# Altium footprint library Connectors.PcbLib: 37 footprints (part 1 of 3)
Each footprint in its own frame and in the unit in brackets; x right, y up, seen from the top. Pads: shape width x height; smd on the part's side, far side on the other; paste and mask are expansions set on the pad; w line width, h text height; cw(c..) or ccw(c..) is an arc to the next point about the centre after c.
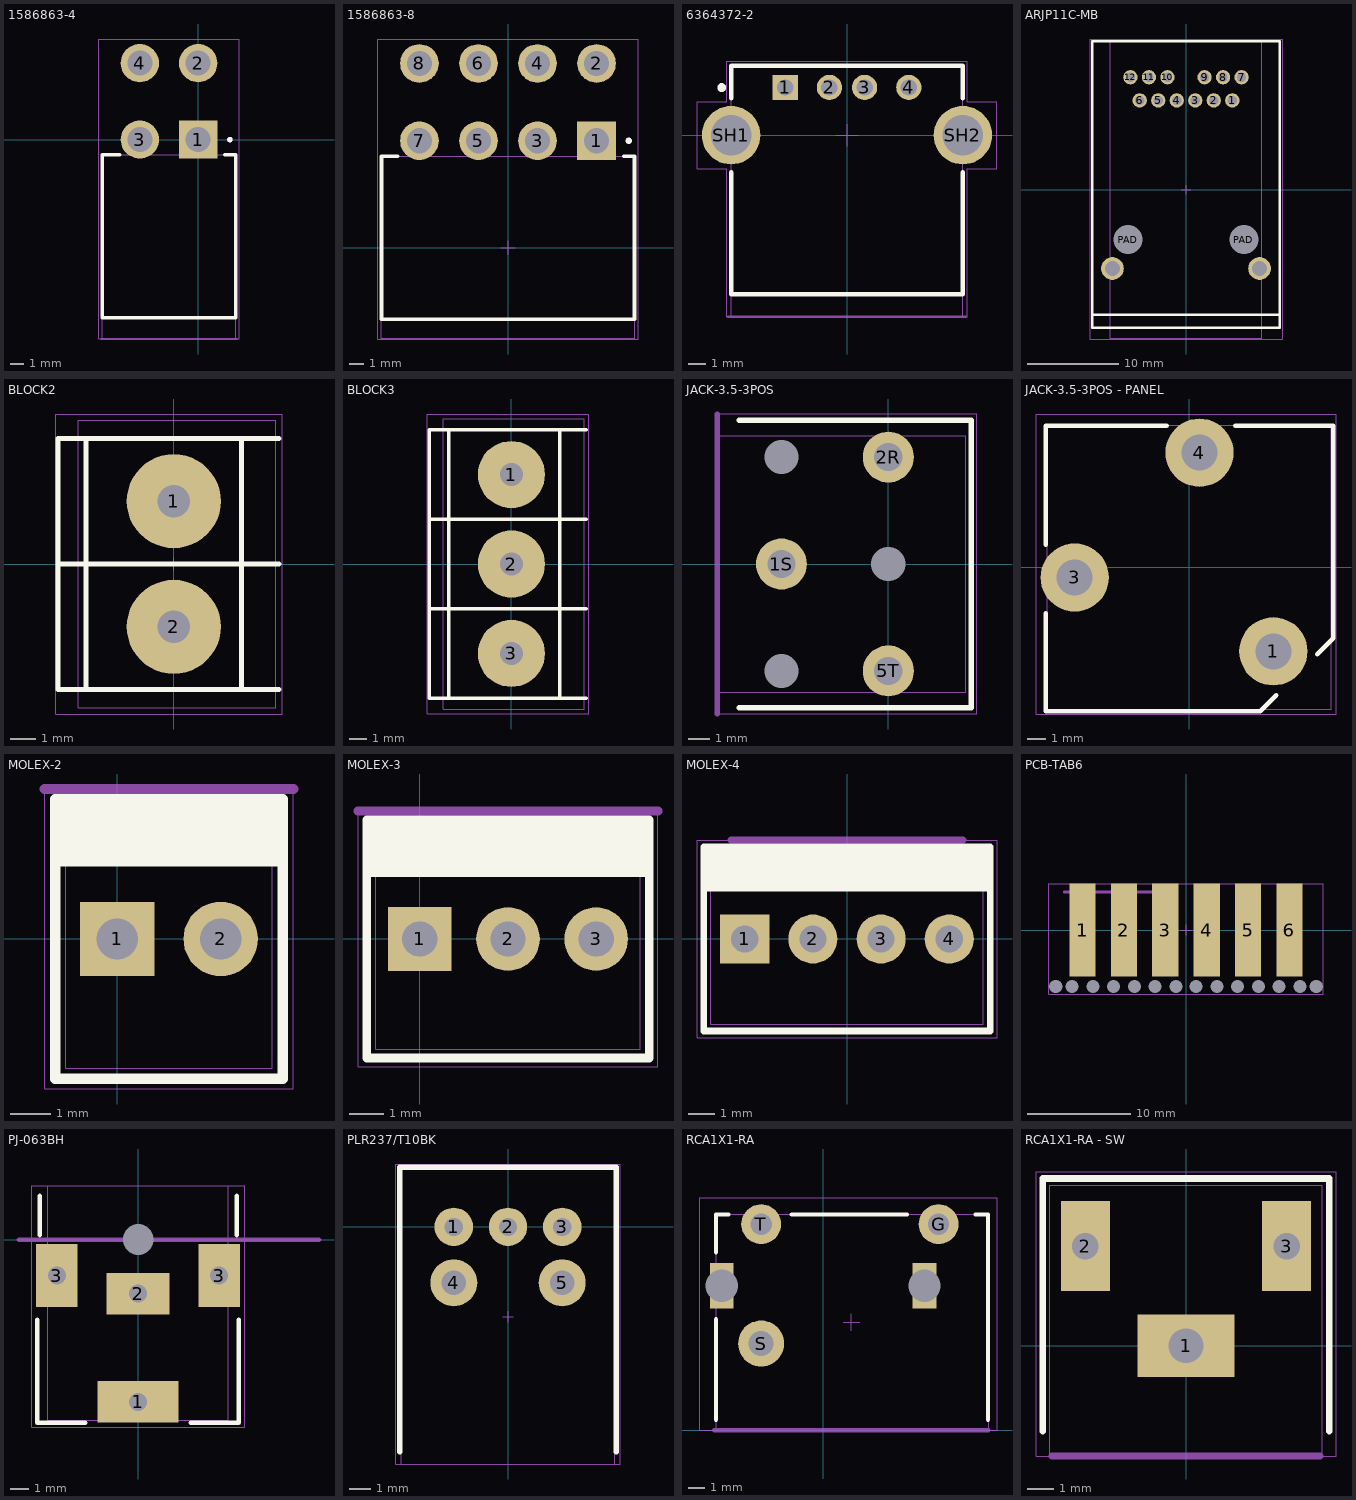
[diagram p0: the footprints below, top view; thin cyan lines are the x and y axes]

## 1586863-4 [mm]
pads (4):
  rect 2.75x2.75 hole 1.8: 1(0,0)
  round 2.75 hole 1.8: 2(0,5.5) 3(-4.2,0) 4(-4.2,5.5)
Top Overlay:
  circle w0.2: c2.286,0 r0.1
  lines w0.254: -5.631,-1.1 -6.9,-1.1 -6.9,-12.827 2.7,-12.827 2.7,-1.1 1.905,-1.1
Top Courtyard:
  lines w0.025: -7.15,-14.35 -7.15,7.239 2.95,7.239 2.95,-14.35 -7.15,-14.35
Top Assembly:
  circle w0.2: c2.286,0 r0.1
  lines w0.025: -6.9,-14.354 -6.9,-1.1 2.7,-1.1 2.7,-14.354 -6.9,-14.354
Board Edge:
  lines w0.127: -6.985,-14.351 2.794,-14.351
3D body "1586863-4.stp": height 11.25, standoff -3.55, extent -6.798,-14.132 3.302,6.003

## 1586863-8 [mm]
pads (8):
  rect 2.75x2.75 hole 1.8: 1(6.3,7.597)
  round 2.75 hole 1.8: 2(6.3,13.097) 3(2.1,7.597) 4(2.1,13.097) 5(-2.1,7.597) 6(-2.1,13.097) 7(-6.3,7.597) 8(-6.3,13.097)
Top Overlay:
  circle w0.254: c8.586,7.597 r0.1
  lines w0.254: -7.84,6.497 -9,6.497 -9,-5.103 9,-5.103 9,6.497 8.248,6.497
Top Courtyard:
  lines w0.05: -9.25,-6.503 -9.25,14.836 9.25,14.836 9.25,-6.503 -9.25,-6.503
Top Assembly:
  circle w0.2: c8.586,7.597 r0.1
  lines w0.025: -0.5,0 0.5,0 ; 0,-0.5 0,0.5 ; -9,-6.5 -9,6.5 9,6.5 9,-6.5 -9,-6.5
Board Edge:
  lines w0.127: -9,-6.503 9,-6.503
3D body "1586863-8.stp": height 11.25, standoff -3.55, extent -9.025,-6.408 9.475,13.727

## 6364372-2 [mm]
pads (6):
  rect 1.428x1.428 hole 0.92: 1(-3.5,2.71)
  round 1.428 hole 0.92: 2(-1,2.71) 3(1,2.71) 4(3.5,2.71)
  round 3.316 hole 2.3: SH1(-6.57,0) SH2(6.57,0)
Top Overlay:
  circle w0.3: c-7.1,2.7 r0.1
  lines w0.254: -6.565,-2.1 -6.565,-9.017 6.565,-9.017 6.565,-2.1 ; -6.565,2.1 -6.565,3.937 6.565,3.937 6.565,2.1
Top Courtyard:
  lines w0.025: -8.5,-1.9 -8.5,1.9 -6.815,1.9 -6.815,4.191 6.815,4.191 6.815,1.9 8.5,1.9 8.5,-1.9 6.815,-1.9 6.815,-10.28 -6.815,-10.28 -6.815,-1.9 -8.5,-1.9
Top Assembly:
  lines w0.025: -0.635,0 0.635,0 ; 0,-0.635 0,0.635 ; -6.565,-10.28 -6.565,3.937 6.565,3.937 6.565,-10.28 -6.565,-10.28
Board Edge:
  lines w0.127: -6.731,-10.287 6.731,-10.287
3D body "6364372-2.stp": height 7.69, standoff -3.17, extent -7.264,-10.302 7.366,3.698

## ARJP11C-MB [mil] "Magjack Conector for PoE"
pads (16):
  round 62 hole 40: 1(199.8,385) 2(119.88,385) 3(39.96,385) 4(-39.96,385) 5(-119.88,385) 6(-199.8,385) 7(239.76,485) 8(159.84,485) 9(79.92,485) 10(-79.92,485) 11(-159.84,485) 12(-239.76,485)
  round 100 hole 125 unplated: PAD(-250,-215) PAD(250,-215)
  round 98.43 hole 65: SHIELD(-317.52,-340.2) SHIELD(317.52,-340.2)
Top Overlay:
  lines w10: -405,-540 405,-540 ; -405,-595 405,-595 405,640 -405,640 -405,-595
Top Courtyard:
  lines w1: -415,-644.13 415,-644.13 415,650 -415,650 -415,-644.13
Top Assembly:
  lines w1: -19.68,0 19.68,0 ; 0,-19.68 0,19.68 ; -326.77,-641.73 -326.77,641.73 326.77,641.73 326.77,-641.73 -326.77,-641.73
Board Edge:
  lines w5: -326.77,-644.13 326.77,-644.13
3D body "ARJP11C-MB.STEP": height 626.86, standoff -131.89, extent -406.69,-644.13 406.69,639.33

## BLOCK2 [mm] "Bornera con Tornillos 5mm separacion"
pads (2):
  round 3.75 hole 1.3: 1(0,2.5) 2(0,-2.5)
Top Overlay:
  lines w0.2: -4.6,0 4.191,0 ; -3.5,-5 -3.5,5 ; 2.7,-5 2.7,5 ; 4.191,-5 -4.6,-5 -4.6,5 4.191,5
Top Courtyard:
  lines w0.025: -4.699,-5.969 4.318,-5.969 4.318,5.969 -4.699,5.969 -4.699,-5.969
Top Assembly:
  lines w0.025: -0.254,0 0.254,0 ; 0,-0.254 0,0.254 ; -3.81,-5.715 -3.81,5.715 4.064,5.715 4.064,-5.715 -3.81,-5.715
3D body "BORNERA_2.step": height 10, standoff -2.28, extent -3.763,-4.892 3.937,5.607

## BLOCK3 [mm] "Bornera con Tornillos 5mm separacion"
pads (3):
  round 3.75 hole 1.3: 1(0,5) 2(0,0) 3(0,-5)
Top Overlay:
  lines w0.2: -4.6,-2.5 4.191,-2.5 ; -4.6,2.5 4.191,2.5 ; -3.5,-7.5 -3.5,7.5 ; 2.7,-7.5 2.7,7.5 ; 4.191,-7.5 -4.6,-7.5 -4.6,7.5 4.191,7.5
Top Courtyard:
  lines w0.025: -4.699,-8.382 4.318,-8.382 4.318,8.382 -4.699,8.382 -4.699,-8.382
Top Assembly:
  lines w0.025: -0.254,0 0.254,0 ; 0,-0.254 0,0.254 ; -3.81,-8.128 4.064,-8.128 4.064,8.128 -3.81,8.128 -3.81,-8.128
3D body "BORNERA_3.step": height 10.05, standoff -2.24, extent -3.763,-7.392 3.937,8.107

## JACK-3.5-3POS [mil]
pads (6):
  round 94 hole 52: 1S(-196.85,0) 2R(0,196.85) 5T(0,-196.85)
  round 45 hole 63 unplated: ""(-196.85,-196.85) ""(-196.85,196.85) ""(0,0)
Top Overlay:
  lines w10: -275,-265 152.78,-265 152.78,265 -275,265
Top Courtyard:
  lines w1: -315,-276.22 162.78,-276.22 162.78,276.22 -315,276.22 -315,-276.22
Top Assembly:
  lines w1: -315,-236.22 142.78,-236.22 142.78,236.22 -315,236.22 -315,-236.22
Board Edge:
  lines w10: -315,-276.22 -315,276.22
3D body "STX-3200-3NB_rB3.STEP": height 432.39, standoff -156.98, extent -451.71,-236.22 142.78,236.22

## JACK-3.5-3POS - PANEL [mm]
pads (3):
  round 3.8 hole 2: 1(4.67,-4.67) 3(-6.38,-0.56) 4(0.56,6.38)
Top Overlay:
  lines w0.254: -8.001,-2.54 -8.001,-8.001 3.937,-8.001 4.826,-7.112 ; -8.001,1.27 -8.001,7.874 -1.27,7.874 ; 2.54,7.874 8.001,7.874 8.001,-3.937 7.112,-4.826
Top Courtyard:
  lines w0.025: -8.534,-8.154 8.154,-8.154 8.154,8.534 -8.534,8.534 -8.534,-8.154
Top Assembly:
  lines w0.025: -7.9,-7.9 -7.9,7.9 7.9,7.9 7.9,-7.9 -7.9,-7.9
3D body "ACJS-MV35-3.stp": height 40.41, standoff -3.49, extent -7.886,-7.842 7.874,7.918

## MOLEX-2 [mil] "Connector 1x2, Pitch 100mil"
pads (2):
  rect 72x72 hole 40: 1(0,0)
  round 72 hole 40: 2(100,0)
Top Overlay:
  rectangle: -60,70 160,135
  lines w10: -60,-135 160,-135 160,135 -60,135 -60,-135
Top Courtyard:
  lines w1: -70,-145 170,-145 170,145 -70,145 -70,-145
Top Assembly:
  lines w1: -50,-125 -50,125 150,125 150,-125 -50,-125
Board Edge:
  lines w10: -70,145 170,145
3D body "MOLEX2.STEP": height 423.02, standoff -136.82, extent -50,-125 150,125

## MOLEX-3 [mil] "Connector 1x3, Pitch 100mil"
pads (3):
  rect 72x72 hole 40: 1(0,0)
  round 72 hole 40: 2(100,0) 3(200,0)
Top Overlay:
  rectangle: -60,70 260,135
  lines w10: -60,-135 -60,135 260,135 260,-135 -60,-135
Top Courtyard:
  lines w1: -70,-145 -70,145 270,145 270,-145 -70,-145
Top Assembly:
  lines w1: -50,-125 250,-125 250,125 -50,125 -50,-125
Board Edge:
  lines w10: -70,145 270,145
3D body "MOLEX3.STEP": height 423.02, standoff -136.82, extent -50,-125 250,125

## MOLEX-4 [mil] "Connector 1x4, Pitch 100mil"
pads (4):
  rect 72x72 hole 40: 1(-150,0)
  round 72 hole 40: 2(-50,0) 3(50,0) 4(150,0)
Top Overlay:
  rectangle: -210,70 210,135
  lines w10: -210,-135 210,-135 210,135 -210,135 -210,-135
Top Courtyard:
  lines w1: -220,-145 220,-145 220,145 -220,145 -220,-145
Top Assembly:
  lines w1: -200,-125 -200,125 200,125 200,-125 -200,-125
Board Edge:
  lines w10: -170,145 170,145
3D body "022232041.stp": height 420.5, standoff -139.5, extent -197,-128 197,122

## PCB-TAB6 [mil] "External Tabs x 6, Pitch 4mm"
pads (20):
  rect 100x355 smd: 1(-393.7,0) 2(-236.22,0) 3(-78.74,0) 4(78.74,0) 5(236.22,0) 6(393.7,0)
  round 30 hole 50 unplated: NC(-496.18,-215) NC(-433.7,-215) NC(-353.7,-215) NC(-276.22,-215) NC(-196.22,-215) NC(-118.74,-215) NC(-38.74,-215) NC(38.74,-215) NC(118.74,-215) NC(196.22,-215) NC(276.22,-215) NC(353.7,-215) NC(433.7,-215) NC(496.18,-215)
Top Courtyard:
  lines w1: -523.07,-245 523.07,-245 523.07,177.5 -523.07,177.5 -523.07,-245
Top Assembly:
  lines w1: -20,0 20,0 ; 0,-20 0,20
Board Edge:
  lines w10: -463.7,145 -123.7,145

## PJ-063BH [mm]
pads (5):
  rect 4.5x2.3 hole 1 square: 1(0,-9)
  rect 3.5x2.3 hole 1 square: 2(0,-3)
  rect 2.3x3.5 hole 1 square: 3(-4.5,-2) 3(4.5,-2)
  round 1.5 hole 1.7 unplated: ""(0,0)
Top Overlay:
  lines w0.254: -5.588,-4.445 -5.588,-10.16 -2.921,-10.16 ; -5.461,0.254 -5.461,2.413 ; 2.921,-10.16 5.588,-10.16 5.588,-4.445 ; 5.461,0.254 5.461,2.413
Top Courtyard:
  lines w0.025: -5.904,-10.404 5.904,-10.404 5.904,2.992 -5.904,2.992 -5.904,-10.404
Top Assembly:
  lines w0.025: -0.635,-3.508 0.635,-3.508 ; 0,-4.143 0,-2.873 ; -5,-10.008 -5,2.992 5,2.992 5,-10.008 -5,-10.008
Board Edge:
  lines w0.254: -6.604,0 10.033,0
3D body "CUI_DEVICES_PJ-063BH.step": height 9, standoff -3, extent -5.15,-10 5.15,3

## PLR237/T10BK [mm]
pads (5):
  round 1.8 hole 0.85: 1(-2.54,0) 2(0,0) 3(2.54,0)
  round 2.2 hole 1.15: 4(-2.54,-2.62) 5(2.54,-2.62)
Top Overlay:
  lines w0.254: -5.08,-10.541 -5.08,2.794 5.08,2.794 5.08,-10.541
Top Courtyard:
  lines w0.025: -5.254,-11.11 -5.254,2.944 5.254,2.944 5.254,-11.11 -5.254,-11.11
Top Assembly:
  lines w0.025: -0.254,-4.21 0.254,-4.21 ; 0,-4.464 0,-3.956 ; -5,-11.11 5,-11.11 5,2.69 -5,2.69 -5,-11.11
3D body: height 10, standoff 0, extent -5,-11.11 5,2.69

## RCA1X1-RA [mil]
pads (5):
  round 95 hole 51: G(275.5,492) T(-148,492)
  round 110 hole 59: S(-148,207)
  rect 57x108 hole 77 square: ""(-242,345) ""(242,345)
Top Overlay:
  lines w10: -255.9,25 -255.9,265 ; -255.9,425 -255.9,515 -225.9,515 ; -75,515 200,515 ; 363.5,515 393.5,515 393.5,25
Top Courtyard:
  lines w1: -295,0 415,0 415,555 -295,555 -295,0
Top Assembly:
  lines w1: 47.5,257.5 87.5,257.5 ; 67.5,237.5 67.5,277.5 ; -255,0 -255,515 395,515 395,0 -255,0
Board Edge:
  lines w10: -260,0 395,0
3D body "pjras1x1s_series.STEP": height 761.5, standoff -150, extent -255.9,-319.8 393.5,515

## RCA1X1-RA - SW [mil]
pads (3):
  rect 142x92 hole 51 square: 1(0,0)
  rect 72x132 hole 39 square: 2(-147.5,146) 3(147.5,146)
Top Overlay:
  lines w10: -210,-125 -210,245 210,245 210,-125
Top Courtyard:
  lines w1: -220,-162 -220,255 220,255 220,-162 -220,-162
Top Assembly:
  lines w1: -20,0 20,0 ; 0,-20 0,20 ; -200,-162 -200,235 200,235 200,-162 -200,-162
Board Edge:
  lines w10: -196.85,-162 196.85,-162
3D body "pjran1x1_Series.STEP": height 515.5, standoff -154.11, extent -196.85,-536 196.85,232